# EAGLE library part LXT971A (library Intel)
Intel LXT971A 3.3V Dual-Speed Fast Ethernet Transceiver
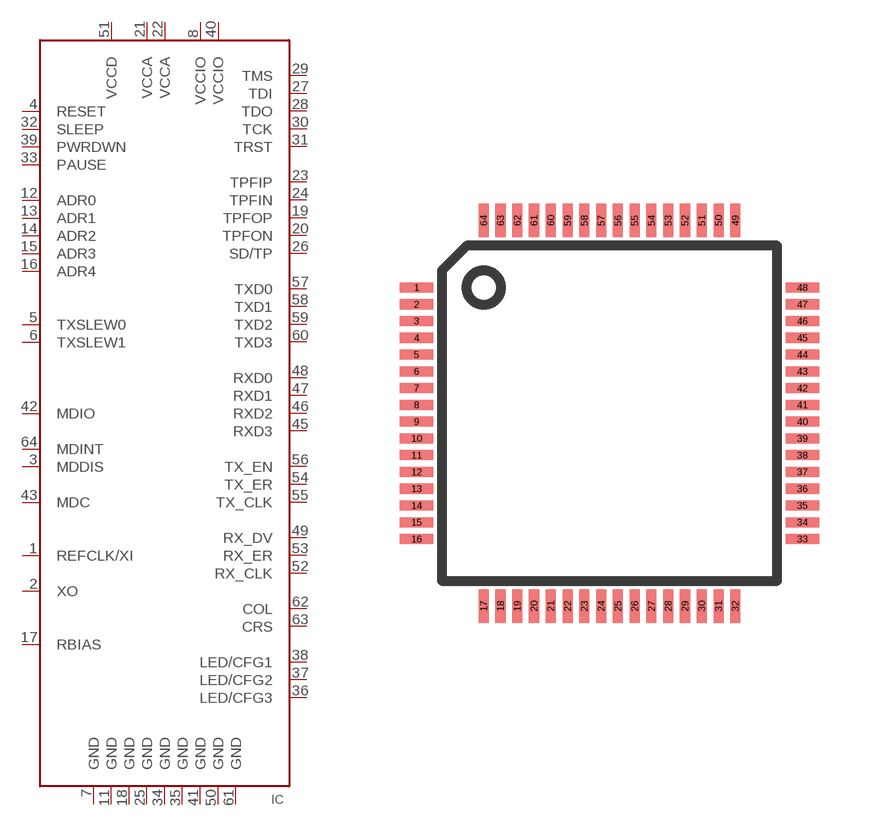
[diagram p0: symbol with the pads of LQFP; footprint LQFP]

Designator prefix IC

## LXT971A-L  [LQFP]
1  REFCLK/XI
2  XO
3  MDDIS
4  RESET
5  TXSLEW0
6  TXSLEW1
7  GND
8  VCCIO
11  GND
12  ADR0
13  ADR1
14  ADR2
15  ADR3
16  ADR4
17  RBIAS
18  GND
19  TPFOP
20  TPFON
21  VCCA
22  VCCA
23  TPFIP
24  TPFIN
25  GND
26  SD/TP
27  TDI
28  TDO
29  TMS
30  TCK
31  TRST
32  SLEEP
33  PAUSE
34  GND
35  GND
36  LED/CFG3
37  LED/CFG2
38  LED/CFG1
39  PWRDWN
40  VCCIO
41  GND
42  MDIO
43  MDC
45  RXD3
46  RXD2
47  RXD1
48  RXD0
49  RX_DV
50  GND
51  VCCD
52  RX_CLK
53  RX_ER
54  TX_ER
55  TX_CLK
56  TX_EN
57  TXD0
58  TXD1
59  TXD2
60  TXD3
61  GND
62  COL
63  CRS
64  MDINT

## Footprint LQFP (pad centres in mm)
smd 1 x 0.3: 1 -5.75,3.75; 2 -5.75,3.25; 3 -5.75,2.75; 4 -5.75,2.25; 5 -5.75,1.75; 6 -5.75,1.25; 7 -5.75,0.75; 8 -5.75,0.25; 9 -5.75,-0.25; 10 -5.75,-0.75; 11 -5.75,-1.25; 12 -5.75,-1.75; 13 -5.75,-2.25; 14 -5.75,-2.75; 15 -5.75,-3.25; 16 -5.75,-3.75; 33 5.75,-3.75; 34 5.75,-3.25; 35 5.75,-2.75; 36 5.75,-2.25; 37 5.75,-1.75; 38 5.75,-1.25; 39 5.75,-0.75; 40 5.75,-0.25; 41 5.75,0.25; 42 5.75,0.75; 43 5.75,1.25; 44 5.75,1.75; 45 5.75,2.25; 46 5.75,2.75; 47 5.75,3.25; 48 5.75,3.75
smd 0.3 x 1: 17 -3.75,-5.75; 18 -3.25,-5.75; 19 -2.75,-5.75; 20 -2.25,-5.75; 21 -1.75,-5.75; 22 -1.25,-5.75; 23 -0.75,-5.75; 24 -0.25,-5.75; 25 0.25,-5.75; 26 0.75,-5.75; 27 1.25,-5.75; 28 1.75,-5.75; 29 2.25,-5.75; 30 2.75,-5.75; 31 3.25,-5.75; 32 3.75,-5.75; 49 3.75,5.75; 50 3.25,5.75; 51 2.75,5.75; 52 2.25,5.75; 53 1.75,5.75; 54 1.25,5.75; 55 0.75,5.75; 56 0.25,5.75; 57 -0.25,5.75; 58 -0.75,5.75; 59 -1.25,5.75; 60 -1.75,5.75; 61 -2.25,5.75; 62 -2.75,5.75; 63 -3.25,5.75; 64 -3.75,5.75